# Altium footprint library MOSFET-TH.PcbLib: 1 footprints
Each footprint in its own frame and in the unit in brackets; x right, y up, seen from the top. Pads: shape width x height; smd on the part's side, far side on the other; paste and mask are expansions set on the pad; w line width, h text height; cw(c..) or ccw(c..) is an arc to the next point about the centre after c.
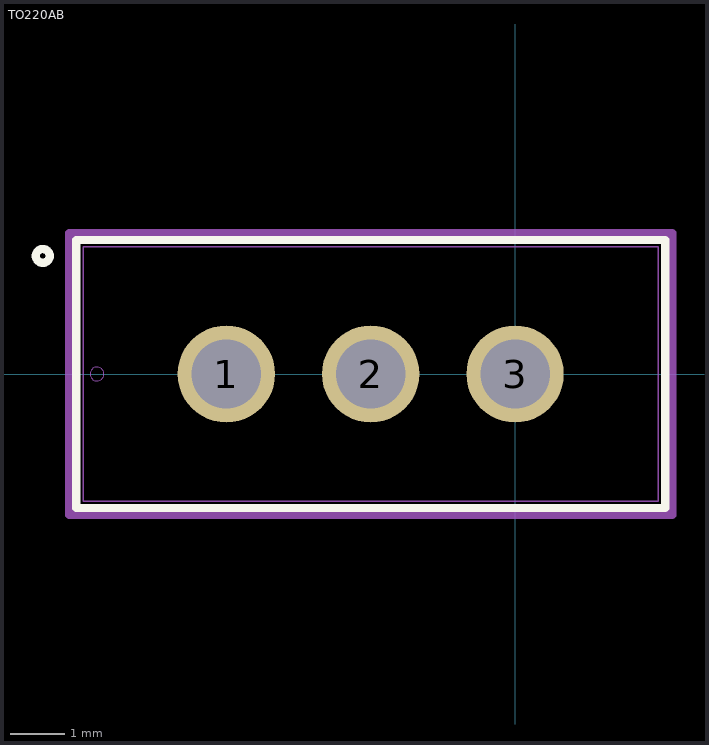
[diagram p0: the footprint, top view; thin cyan lines are the x and y axes]

## TO220AB [mil]
pads (3):
  round 70 hole 50: 1(-207.87,0) 2(-103.94,0) 3(0,0)
Top Overlay:
  circle w6: c-340,85 r5
  lines w6: -315.94,-96.5 -315.94,96.5 108.06,96.5 108.06,-96.5 -315.94,-96.5
Mechanical 7:
Mechanical 13:
  circle w0: c-300.94,0 r5
  lines w1: -310.94,-91.5 -310.94,91.5 103.06,91.5 103.06,-91.5 -310.94,-91.5
  lines w6: -217.87,0 -197.87,0 ; -207.87,-10 -207.87,10
Mechanical 15:
  lines w6: -320.94,-101.5 113.06,-101.5 113.06,101.5 -320.94,101.5 -320.94,-101.5
3D body: height 10, standoff 0, extent 0,0 10,10
3D body "TO220AB.step": height 650, standoff -210, extent -307.01,-90 107.01,92.99